# Altium footprint library NE12S0A0V10PNFA.PcbLib: 1 footprints
Each footprint in its own frame and in the unit in brackets; x right, y up, seen from the top. Pads: shape width x height; smd on the part's side, far side on the other; paste and mask are expansions set on the pad; w line width, h text height; cw(c..) or ccw(c..) is an arc to the next point about the centre after c.
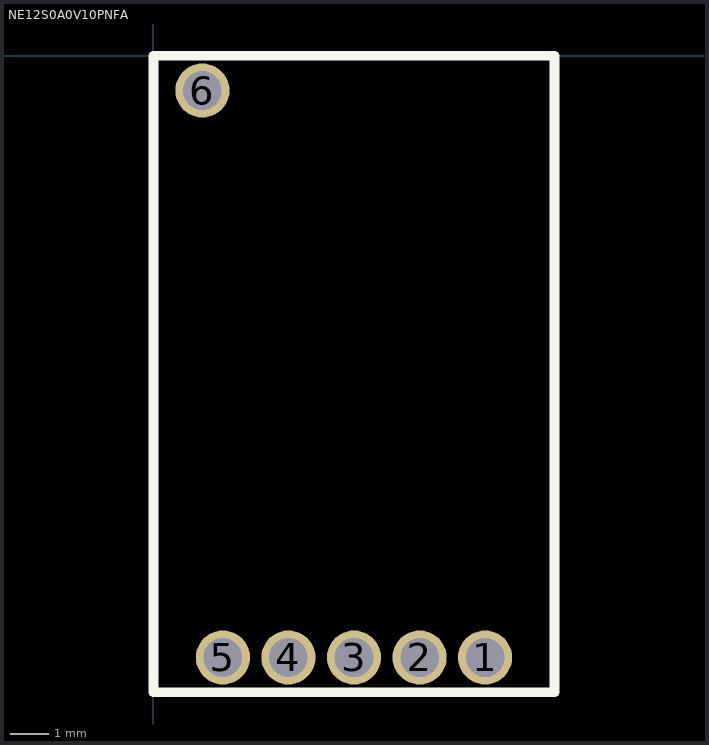
[diagram p0: the footprint, top view; thin cyan lines are the x and y axes]

## NE12S0A0V10PNFA [mm]
pads (6):
  round 1.406 hole 1: 1(8.6,-15.6) 2(6.9,-15.6) 3(5.2,-15.6) 4(3.5,-15.6) 5(1.8,-15.6) 6(1.27,-0.9)
Top Overlay:
  lines w0.254: 0,-16.5 10.4,-16.5 10.4,0 0,0 0,-16.5